# EAGLE library part RIA_ASP044_12WAY (library components)
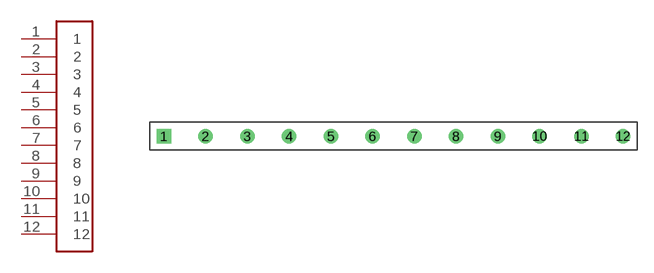
[diagram p20: symbol with the pads of RIA_ASP044_12WAY; footprint RIA_ASP044_12WAY]

Designator prefix P

## RIA_ASP044_12WAY  [RIA_ASP044_12WAY]
1  1
2  2
3  3
4  4
5  5
6  6
7  7
8  8
9  9
10  10
11  11
12  12

## Footprint RIA_ASP044_12WAY (pad centres in mm)
drill 0.8 square: 1 -20.32,0
drill 0.8: 2 -16.51,0; 3 -12.7,0; 4 -8.89,0; 5 -5.08,0; 6 -1.27,0; 7 2.54,0; 8 6.35,0; 9 10.16,0; 10 13.97,0; 11 17.78,0; 12 21.59,0